# EAGLE library part MAX1921 (library cTechnologies_integratedCircuits)
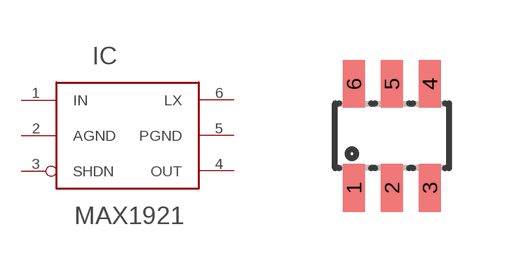
[diagram p21: symbol with the pads of SOT23-6L; footprint SOT23-6L]

Designator prefix IC

## MAX1921EUT  [SOT23-6L]
1  IN
2  AGND
3  SHDN
4  OUT
5  PGND
6  LX

## Footprint SOT23-6L (pad centres in mm)
Small Outline Transistor
smd 0.55 x 1.2: 1 -0.95,-1.3; 2 0,-1.3; 3 0.95,-1.3; 4 0.95,1.3; 5 0,1.3; 6 -0.95,1.3